# Altium schematic symbol library DIE001-QFN22.SchLib: 1 symbol
Pins are listed as number, name and electrical type; pins without a type are passive.

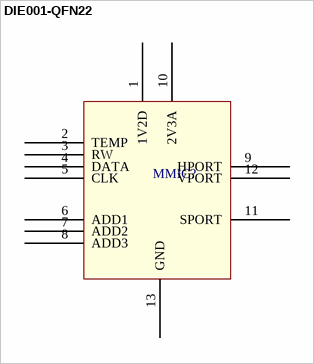
[diagram p0: symbol DIE001-QFN22]

## DIE001-QFN22
designator MMIC?  (value not drawn)
pins: 1 1V2D, 2 TEMP, 3 RW, 4 DATA, 5 CLK, 6 ADD1, 7 ADD2, 8 ADD3, 9 HPORT, 10 2V3A, 11 SPORT, 12 VPORT, 13 GND